# EAGLE library part LIS331D (library X893)
3 axes linear accelerometer
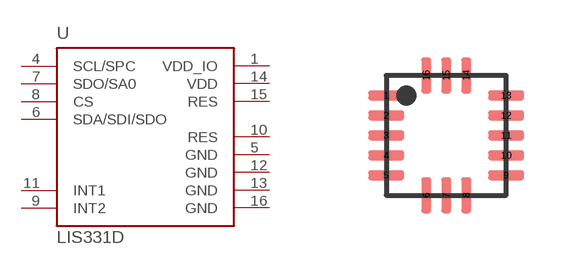
[diagram p54: symbol with the pads of LGA16-3X3; footprint LGA16-3X3]

Designator prefix -

## LIS331DLH  [LGA16-3X3]
1  VDD_IO  pwr
4  SCL/SPC
5  GND  pwr
6  SDA/SDI/SDO
7  SDO/SA0
8  CS
9  INT2  out
10  RES  pas
11  INT1  out
12  GND  pwr
13  GND  pwr
14  VDD  pwr
15  RES  pas
16  GND  pwr

## Footprint LGA16-3X3 (pad centres in mm)
smd 0.9 x 0.25: 1 -1.5,1; 2 -1.5,0.5; 3 -1.5,0; 4 -1.5,-0.5; 5 -1.5,-1; 9 1.5,-1; 10 1.5,-0.5; 11 1.5,0; 12 1.5,0.5; 13 1.5,1
smd 0.25 x 0.9: 6 -0.5,-1.5; 7 0,-1.5; 8 0.5,-1.5; 14 0.5,1.5; 15 0,1.5; 16 -0.5,1.5